# Altium footprint library IPC-SM-782 Section 11.3 SQFP_QFP-Rectangular.PcbLib: 50 footprints (part 4 of 4)
Each footprint in its own frame and in the unit in brackets; x right, y up, seen from the top. Pads: shape width x height; smd on the part's side, far side on the other; paste and mask are expansions set on the pad; w line width, h text height; cw(c..) or ccw(c..) is an arc to the next point about the centre after c.
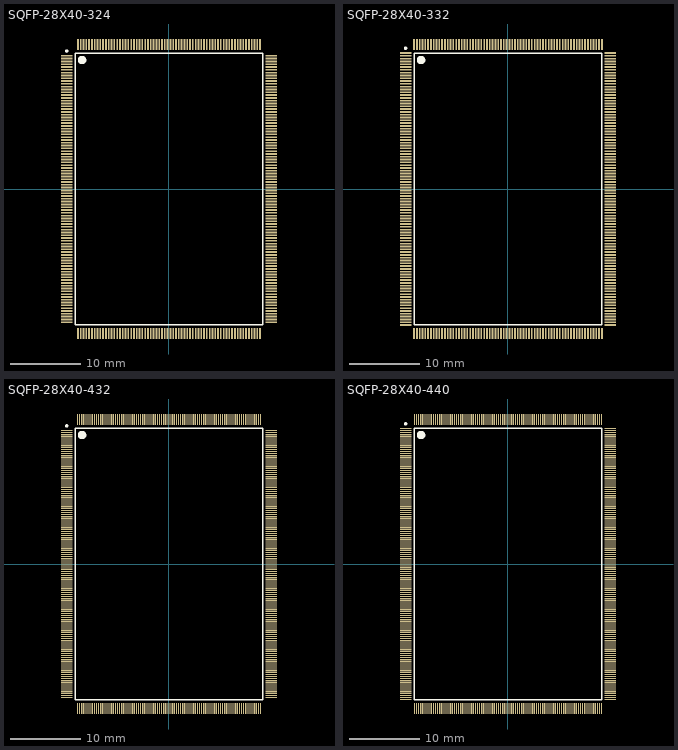
[diagram p3: the footprints below, top view; thin cyan lines are the x and y axes]

## SQFP-28X40-324 [mm] "QFP; 324 Leads; Body 28 x 40 mm; Pitch 0.4 mm"
height 4.2
pads (324):
  rect 1.6x0.25 smd: 1(-14.6,19) 2(-14.6,18.6) 3(-14.6,18.2) 4(-14.6,17.8) 5(-14.6,17.4) 6(-14.6,17) 7(-14.6,16.6) 8(-14.6,16.2) 9(-14.6,15.8) 10(-14.6,15.4) 11(-14.6,15) 12(-14.6,14.6) 13(-14.6,14.2) 14(-14.6,13.8) 15(-14.6,13.4) 16(-14.6,13) 17(-14.6,12.6) 18(-14.6,12.2) 19(-14.6,11.8) 20(-14.6,11.4) 21(-14.6,11) 22(-14.6,10.6) 23(-14.6,10.2) 24(-14.6,9.8) 25(-14.6,9.4) 26(-14.6,9) 27(-14.6,8.6) 28(-14.6,8.2) 29(-14.6,7.8) 30(-14.6,7.4) 31(-14.6,7) 32(-14.6,6.6) 33(-14.6,6.2) 34(-14.6,5.8) 35(-14.6,5.4) 36(-14.6,5) 37(-14.6,4.6) 38(-14.6,4.2) 39(-14.6,3.8) 40(-14.6,3.4) 41(-14.6,3) 42(-14.6,2.6) 43(-14.6,2.2) 44(-14.6,1.8) 45(-14.6,1.4) 46(-14.6,1) 47(-14.6,0.6) 48(-14.6,0.2) 49(-14.6,-0.2) 50(-14.6,-0.6) 51(-14.6,-1) 52(-14.6,-1.4) 53(-14.6,-1.8) 54(-14.6,-2.2) 55(-14.6,-2.6) 56(-14.6,-3) 57(-14.6,-3.4) 58(-14.6,-3.8) 59(-14.6,-4.2) 60(-14.6,-4.6) 61(-14.6,-5) 62(-14.6,-5.4) 63(-14.6,-5.8) 64(-14.6,-6.2) 65(-14.6,-6.6) 66(-14.6,-7) 67(-14.6,-7.4) 68(-14.6,-7.8) 69(-14.6,-8.2) 70(-14.6,-8.6) 71(-14.6,-9) 72(-14.6,-9.4) 73(-14.6,-9.8) 74(-14.6,-10.2) 75(-14.6,-10.6) 76(-14.6,-11) 77(-14.6,-11.4) 78(-14.6,-11.8) 79(-14.6,-12.2) 80(-14.6,-12.6) 81(-14.6,-13) 82(-14.6,-13.4) 83(-14.6,-13.8) 84(-14.6,-14.2) 85(-14.6,-14.6) 86(-14.6,-15) 87(-14.6,-15.4) 88(-14.6,-15.8) 89(-14.6,-16.2) 90(-14.6,-16.6) 91(-14.6,-17) 92(-14.6,-17.4) 93(-14.6,-17.8) 94(-14.6,-18.2) 95(-14.6,-18.6) 96(-14.6,-19) 163(14.6,-19) 164(14.6,-18.6) 165(14.6,-18.2) 166(14.6,-17.8) 167(14.6,-17.4) 168(14.6,-17) 169(14.6,-16.6) 170(14.6,-16.2) 171(14.6,-15.8) 172(14.6,-15.4) 173(14.6,-15) 174(14.6,-14.6) 175(14.6,-14.2) 176(14.6,-13.8) 177(14.6,-13.4) 178(14.6,-13) 179(14.6,-12.6) 180(14.6,-12.2) 181(14.6,-11.8) 182(14.6,-11.4) 183(14.6,-11) 184(14.6,-10.6) 185(14.6,-10.2) 186(14.6,-9.8) 187(14.6,-9.4) 188(14.6,-9) 189(14.6,-8.6) 190(14.6,-8.2) 191(14.6,-7.8) 192(14.6,-7.4) 193(14.6,-7) 194(14.6,-6.6) 195(14.6,-6.2) 196(14.6,-5.8) 197(14.6,-5.4) 198(14.6,-5) 199(14.6,-4.6) 200(14.6,-4.2) 201(14.6,-3.8) 202(14.6,-3.4) 203(14.6,-3) 204(14.6,-2.6) 205(14.6,-2.2) 206(14.6,-1.8) 207(14.6,-1.4) 208(14.6,-1) 209(14.6,-0.6) 210(14.6,-0.2) 211(14.6,0.2) 212(14.6,0.6) 213(14.6,1) 214(14.6,1.4) 215(14.6,1.8) 216(14.6,2.2) 217(14.6,2.6) 218(14.6,3) 219(14.6,3.4) 220(14.6,3.8) 221(14.6,4.2) 222(14.6,4.6) 223(14.6,5) 224(14.6,5.4) 225(14.6,5.8) 226(14.6,6.2) 227(14.6,6.6) 228(14.6,7) 229(14.6,7.4) 230(14.6,7.8) 231(14.6,8.2) 232(14.6,8.6) 233(14.6,9) 234(14.6,9.4) 235(14.6,9.8) 236(14.6,10.2) 237(14.6,10.6) 238(14.6,11) 239(14.6,11.4) 240(14.6,11.8) 241(14.6,12.2) 242(14.6,12.6) 243(14.6,13) 244(14.6,13.4) 245(14.6,13.8) 246(14.6,14.2) 247(14.6,14.6) 248(14.6,15) 249(14.6,15.4) 250(14.6,15.8) 251(14.6,16.2) 252(14.6,16.6) 253(14.6,17) 254(14.6,17.4) 255(14.6,17.8) 256(14.6,18.2) 257(14.6,18.6) 258(14.6,19)
  rect 0.25x1.6 smd: 97(-13,-20.6) 98(-12.6,-20.6) 99(-12.2,-20.6) 100(-11.8,-20.6) 101(-11.4,-20.6) 102(-11,-20.6) 103(-10.6,-20.6) 104(-10.2,-20.6) 105(-9.8,-20.6) 106(-9.4,-20.6) 107(-9,-20.6) 108(-8.6,-20.6) 109(-8.2,-20.6) 110(-7.8,-20.6) 111(-7.4,-20.6) 112(-7,-20.6) 113(-6.6,-20.6) 114(-6.2,-20.6) 115(-5.8,-20.6) 116(-5.4,-20.6) 117(-5,-20.6) 118(-4.6,-20.6) 119(-4.2,-20.6) 120(-3.8,-20.6) 121(-3.4,-20.6) 122(-3,-20.6) 123(-2.6,-20.6) 124(-2.2,-20.6) 125(-1.8,-20.6) 126(-1.4,-20.6) 127(-1,-20.6) 128(-0.6,-20.6) 129(-0.2,-20.6) 130(0.2,-20.6) 131(0.6,-20.6) 132(1,-20.6) 133(1.4,-20.6) 134(1.8,-20.6) 135(2.2,-20.6) 136(2.6,-20.6) 137(3,-20.6) 138(3.4,-20.6) 139(3.8,-20.6) 140(4.2,-20.6) 141(4.6,-20.6) 142(5,-20.6) 143(5.4,-20.6) 144(5.8,-20.6) 145(6.2,-20.6) 146(6.6,-20.6) 147(7,-20.6) 148(7.4,-20.6) 149(7.8,-20.6) 150(8.2,-20.6) 151(8.6,-20.6) 152(9,-20.6) 153(9.4,-20.6) 154(9.8,-20.6) 155(10.2,-20.6) 156(10.6,-20.6) 157(11,-20.6) 158(11.4,-20.6) 159(11.8,-20.6) 160(12.2,-20.6) 161(12.6,-20.6) 162(13,-20.6) 259(13,20.6) 260(12.6,20.6) 261(12.2,20.6) 262(11.8,20.6) 263(11.4,20.6) 264(11,20.6) 265(10.6,20.6) 266(10.2,20.6) 267(9.8,20.6) 268(9.4,20.6) 269(9,20.6) 270(8.6,20.6) 271(8.2,20.6) 272(7.8,20.6) 273(7.4,20.6) 274(7,20.6) 275(6.6,20.6) 276(6.2,20.6) 277(5.8,20.6) 278(5.4,20.6) 279(5,20.6) 280(4.6,20.6) 281(4.2,20.6) 282(3.8,20.6) 283(3.4,20.6) 284(3,20.6) 285(2.6,20.6) 286(2.2,20.6) 287(1.8,20.6) 288(1.4,20.6) 289(1,20.6) 290(0.6,20.6) 291(0.2,20.6) 292(-0.2,20.6) 293(-0.6,20.6) 294(-1,20.6) 295(-1.4,20.6) 296(-1.8,20.6) 297(-2.2,20.6) 298(-2.6,20.6) 299(-3,20.6) 300(-3.4,20.6) 301(-3.8,20.6) 302(-4.2,20.6) 303(-4.6,20.6) 304(-5,20.6) 305(-5.4,20.6) 306(-5.8,20.6) 307(-6.2,20.6) 308(-6.6,20.6) 309(-7,20.6) 310(-7.4,20.6) 311(-7.8,20.6) 312(-8.2,20.6) 313(-8.6,20.6) 314(-9,20.6) 315(-9.4,20.6) 316(-9.8,20.6) 317(-10.2,20.6) 318(-10.6,20.6) 319(-11,20.6) 320(-11.4,20.6) 321(-11.8,20.6) 322(-12.2,20.6) 323(-12.6,20.6) 324(-13,20.6)
Top Overlay:
  circle w0.6: c-12.4,18.4 r0.3
  circle w0.25: c-14.6,19.688 r0.125
  lines w0.2: -13.4,-19.4 -13.4,19.4 13.4,19.4 13.4,-19.4 -13.4,-19.4

## SQFP-28X40-332 [mm] "QFP; 332 Leads; Body 28 x 40 mm; Pitch 0.4 mm"
height 4.2
pads (332):
  rect 1.6x0.25 smd: 1(-14.6,19.4) 2(-14.6,19) 3(-14.6,18.6) 4(-14.6,18.2) 5(-14.6,17.8) 6(-14.6,17.4) 7(-14.6,17) 8(-14.6,16.6) 9(-14.6,16.2) 10(-14.6,15.8) 11(-14.6,15.4) 12(-14.6,15) 13(-14.6,14.6) 14(-14.6,14.2) 15(-14.6,13.8) 16(-14.6,13.4) 17(-14.6,13) 18(-14.6,12.6) 19(-14.6,12.2) 20(-14.6,11.8) 21(-14.6,11.4) 22(-14.6,11) 23(-14.6,10.6) 24(-14.6,10.2) 25(-14.6,9.8) 26(-14.6,9.4) 27(-14.6,9) 28(-14.6,8.6) 29(-14.6,8.2) 30(-14.6,7.8) 31(-14.6,7.4) 32(-14.6,7) 33(-14.6,6.6) 34(-14.6,6.2) 35(-14.6,5.8) 36(-14.6,5.4) 37(-14.6,5) 38(-14.6,4.6) 39(-14.6,4.2) 40(-14.6,3.8) 41(-14.6,3.4) 42(-14.6,3) 43(-14.6,2.6) 44(-14.6,2.2) 45(-14.6,1.8) 46(-14.6,1.4) 47(-14.6,1) 48(-14.6,0.6) 49(-14.6,0.2) 50(-14.6,-0.2) 51(-14.6,-0.6) 52(-14.6,-1) 53(-14.6,-1.4) 54(-14.6,-1.8) 55(-14.6,-2.2) 56(-14.6,-2.6) 57(-14.6,-3) 58(-14.6,-3.4) 59(-14.6,-3.8) 60(-14.6,-4.2) 61(-14.6,-4.6) 62(-14.6,-5) 63(-14.6,-5.4) 64(-14.6,-5.8) 65(-14.6,-6.2) 66(-14.6,-6.6) 67(-14.6,-7) 68(-14.6,-7.4) 69(-14.6,-7.8) 70(-14.6,-8.2) 71(-14.6,-8.6) 72(-14.6,-9) 73(-14.6,-9.4) 74(-14.6,-9.8) 75(-14.6,-10.2) 76(-14.6,-10.6) 77(-14.6,-11) 78(-14.6,-11.4) 79(-14.6,-11.8) 80(-14.6,-12.2) 81(-14.6,-12.6) 82(-14.6,-13) 83(-14.6,-13.4) 84(-14.6,-13.8) 85(-14.6,-14.2) 86(-14.6,-14.6) 87(-14.6,-15) 88(-14.6,-15.4) 89(-14.6,-15.8) 90(-14.6,-16.2) 91(-14.6,-16.6) 92(-14.6,-17) 93(-14.6,-17.4) 94(-14.6,-17.8) 95(-14.6,-18.2) 96(-14.6,-18.6) 97(-14.6,-19) 98(-14.6,-19.4) 167(14.6,-19.4) 168(14.6,-19) 169(14.6,-18.6) 170(14.6,-18.2) 171(14.6,-17.8) 172(14.6,-17.4) 173(14.6,-17) 174(14.6,-16.6) 175(14.6,-16.2) 176(14.6,-15.8) 177(14.6,-15.4) 178(14.6,-15) 179(14.6,-14.6) 180(14.6,-14.2) 181(14.6,-13.8) 182(14.6,-13.4) 183(14.6,-13) 184(14.6,-12.6) 185(14.6,-12.2) 186(14.6,-11.8) 187(14.6,-11.4) 188(14.6,-11) 189(14.6,-10.6) 190(14.6,-10.2) 191(14.6,-9.8) 192(14.6,-9.4) 193(14.6,-9) 194(14.6,-8.6) 195(14.6,-8.2) 196(14.6,-7.8) 197(14.6,-7.4) 198(14.6,-7) 199(14.6,-6.6) 200(14.6,-6.2) 201(14.6,-5.8) 202(14.6,-5.4) 203(14.6,-5) 204(14.6,-4.6) 205(14.6,-4.2) 206(14.6,-3.8) 207(14.6,-3.4) 208(14.6,-3) 209(14.6,-2.6) 210(14.6,-2.2) 211(14.6,-1.8) 212(14.6,-1.4) 213(14.6,-1) 214(14.6,-0.6) 215(14.6,-0.2) 216(14.6,0.2) 217(14.6,0.6) 218(14.6,1) 219(14.6,1.4) 220(14.6,1.8) 221(14.6,2.2) 222(14.6,2.6) 223(14.6,3) 224(14.6,3.4) 225(14.6,3.8) 226(14.6,4.2) 227(14.6,4.6) 228(14.6,5) 229(14.6,5.4) 230(14.6,5.8) 231(14.6,6.2) 232(14.6,6.6) 233(14.6,7) 234(14.6,7.4) 235(14.6,7.8) 236(14.6,8.2) 237(14.6,8.6) 238(14.6,9) 239(14.6,9.4) 240(14.6,9.8) 241(14.6,10.2) 242(14.6,10.6) 243(14.6,11) 244(14.6,11.4) 245(14.6,11.8) 246(14.6,12.2) 247(14.6,12.6) 248(14.6,13) 249(14.6,13.4) 250(14.6,13.8) 251(14.6,14.2) 252(14.6,14.6) 253(14.6,15) 254(14.6,15.4) 255(14.6,15.8) 256(14.6,16.2) 257(14.6,16.6) 258(14.6,17) 259(14.6,17.4) 260(14.6,17.8) 261(14.6,18.2) 262(14.6,18.6) 263(14.6,19) 264(14.6,19.4)
  rect 0.25x1.6 smd: 99(-13.4,-20.6) 100(-13,-20.6) 101(-12.6,-20.6) 102(-12.2,-20.6) 103(-11.8,-20.6) 104(-11.4,-20.6) 105(-11,-20.6) 106(-10.6,-20.6) 107(-10.2,-20.6) 108(-9.8,-20.6) 109(-9.4,-20.6) 110(-9,-20.6) 111(-8.6,-20.6) 112(-8.2,-20.6) 113(-7.8,-20.6) 114(-7.4,-20.6) 115(-7,-20.6) 116(-6.6,-20.6) 117(-6.2,-20.6) 118(-5.8,-20.6) 119(-5.4,-20.6) 120(-5,-20.6) 121(-4.6,-20.6) 122(-4.2,-20.6) 123(-3.8,-20.6) 124(-3.4,-20.6) 125(-3,-20.6) 126(-2.6,-20.6) 127(-2.2,-20.6) 128(-1.8,-20.6) 129(-1.4,-20.6) 130(-1,-20.6) 131(-0.6,-20.6) 132(-0.2,-20.6) 133(0.2,-20.6) 134(0.6,-20.6) 135(1,-20.6) 136(1.4,-20.6) 137(1.8,-20.6) 138(2.2,-20.6) 139(2.6,-20.6) 140(3,-20.6) 141(3.4,-20.6) 142(3.8,-20.6) 143(4.2,-20.6) 144(4.6,-20.6) 145(5,-20.6) 146(5.4,-20.6) 147(5.8,-20.6) 148(6.2,-20.6) 149(6.6,-20.6) 150(7,-20.6) 151(7.4,-20.6) 152(7.8,-20.6) 153(8.2,-20.6) 154(8.6,-20.6) 155(9,-20.6) 156(9.4,-20.6) 157(9.8,-20.6) 158(10.2,-20.6) 159(10.6,-20.6) 160(11,-20.6) 161(11.4,-20.6) 162(11.8,-20.6) 163(12.2,-20.6) 164(12.6,-20.6) 165(13,-20.6) 166(13.4,-20.6) 265(13.4,20.6) 266(13,20.6) 267(12.6,20.6) 268(12.2,20.6) 269(11.8,20.6) 270(11.4,20.6) 271(11,20.6) 272(10.6,20.6) 273(10.2,20.6) 274(9.8,20.6) 275(9.4,20.6) 276(9,20.6) 277(8.6,20.6) 278(8.2,20.6) 279(7.8,20.6) 280(7.4,20.6) 281(7,20.6) 282(6.6,20.6) 283(6.2,20.6) 284(5.8,20.6) 285(5.4,20.6) 286(5,20.6) 287(4.6,20.6) 288(4.2,20.6) 289(3.8,20.6) 290(3.4,20.6) 291(3,20.6) 292(2.6,20.6) 293(2.2,20.6) 294(1.8,20.6) 295(1.4,20.6) 296(1,20.6) 297(0.6,20.6) 298(0.2,20.6) 299(-0.2,20.6) 300(-0.6,20.6) 301(-1,20.6) 302(-1.4,20.6) 303(-1.8,20.6) 304(-2.2,20.6) 305(-2.6,20.6) 306(-3,20.6) 307(-3.4,20.6) 308(-3.8,20.6) 309(-4.2,20.6) 310(-4.6,20.6) 311(-5,20.6) 312(-5.4,20.6) 313(-5.8,20.6) 314(-6.2,20.6) 315(-6.6,20.6) 316(-7,20.6) 317(-7.4,20.6) 318(-7.8,20.6) 319(-8.2,20.6) 320(-8.6,20.6) 321(-9,20.6) 322(-9.4,20.6) 323(-9.8,20.6) 324(-10.2,20.6) 325(-10.6,20.6) 326(-11,20.6) 327(-11.4,20.6) 328(-11.8,20.6) 329(-12.2,20.6) 330(-12.6,20.6) 331(-13,20.6) 332(-13.4,20.6)
Top Overlay:
  circle w0.25: c-14.6,20.088 r0.125
  circle w0.6: c-12.4,18.4 r0.3
  lines w0.2: -13.4,-19.4 13.4,-19.4 13.4,19.4 -13.4,19.4 -13.4,-19.4

## SQFP-28X40-432 [mm] "QFP; 432 Leads; Body 28 x 40 mm; Pitch 0.3 mm"
height 4.2
pads (432):
  rect 1.6x0.17 smd: 1(-14.6,19.05) 2(-14.6,18.75) 3(-14.6,18.45) 4(-14.6,18.15) 5(-14.6,17.85) 6(-14.6,17.55) 7(-14.6,17.25) 8(-14.6,16.95) 9(-14.6,16.65) 10(-14.6,16.35) 11(-14.6,16.05) 12(-14.6,15.75) 13(-14.6,15.45) 14(-14.6,15.15) 15(-14.6,14.85) 16(-14.6,14.55) 17(-14.6,14.25) 18(-14.6,13.95) 19(-14.6,13.65) 20(-14.6,13.35) 21(-14.6,13.05) 22(-14.6,12.75) 23(-14.6,12.45) 24(-14.6,12.15) 25(-14.6,11.85) 26(-14.6,11.55) 27(-14.6,11.25) 28(-14.6,10.95) 29(-14.6,10.65) 30(-14.6,10.35) 31(-14.6,10.05) 32(-14.6,9.75) 33(-14.6,9.45) 34(-14.6,9.15) 35(-14.6,8.85) 36(-14.6,8.55) 37(-14.6,8.25) 38(-14.6,7.95) 39(-14.6,7.65) 40(-14.6,7.35) 41(-14.6,7.05) 42(-14.6,6.75) 43(-14.6,6.45) 44(-14.6,6.15) 45(-14.6,5.85) 46(-14.6,5.55) 47(-14.6,5.25) 48(-14.6,4.95) 49(-14.6,4.65) 50(-14.6,4.35) 51(-14.6,4.05) 52(-14.6,3.75) 53(-14.6,3.45) 54(-14.6,3.15) 55(-14.6,2.85) 56(-14.6,2.55) 57(-14.6,2.25) 58(-14.6,1.95) 59(-14.6,1.65) 60(-14.6,1.35) 61(-14.6,1.05) 62(-14.6,0.75) 63(-14.6,0.45) 64(-14.6,0.15) 65(-14.6,-0.15) 66(-14.6,-0.45) 67(-14.6,-0.75) 68(-14.6,-1.05) 69(-14.6,-1.35) 70(-14.6,-1.65) 71(-14.6,-1.95) 72(-14.6,-2.25) 73(-14.6,-2.55) 74(-14.6,-2.85) 75(-14.6,-3.15) 76(-14.6,-3.45) 77(-14.6,-3.75) 78(-14.6,-4.05) 79(-14.6,-4.35) 80(-14.6,-4.65) 81(-14.6,-4.95) 82(-14.6,-5.25) 83(-14.6,-5.55) 84(-14.6,-5.85) 85(-14.6,-6.15) 86(-14.6,-6.45) 87(-14.6,-6.75) 88(-14.6,-7.05) 89(-14.6,-7.35) 90(-14.6,-7.65) 91(-14.6,-7.95) 92(-14.6,-8.25) 93(-14.6,-8.55) 94(-14.6,-8.85) 95(-14.6,-9.15) 96(-14.6,-9.45) 97(-14.6,-9.75) 98(-14.6,-10.05) 99(-14.6,-10.35) 100(-14.6,-10.65) 101(-14.6,-10.95) 102(-14.6,-11.25) 103(-14.6,-11.55) 104(-14.6,-11.85) 105(-14.6,-12.15) 106(-14.6,-12.45) 107(-14.6,-12.75) 108(-14.6,-13.05) 109(-14.6,-13.35) 110(-14.6,-13.65) 111(-14.6,-13.95) 112(-14.6,-14.25) 113(-14.6,-14.55) 114(-14.6,-14.85) 115(-14.6,-15.15) 116(-14.6,-15.45) 117(-14.6,-15.75) 118(-14.6,-16.05) 119(-14.6,-16.35) 120(-14.6,-16.65) 121(-14.6,-16.95) 122(-14.6,-17.25) 123(-14.6,-17.55) 124(-14.6,-17.85) 125(-14.6,-18.15) 126(-14.6,-18.45) 127(-14.6,-18.75) 128(-14.6,-19.05) 217(14.6,-19.05) 218(14.6,-18.75) 219(14.6,-18.45) 220(14.6,-18.15) 221(14.6,-17.85) 222(14.6,-17.55) 223(14.6,-17.25) 224(14.6,-16.95) 225(14.6,-16.65) 226(14.6,-16.35) 227(14.6,-16.05) 228(14.6,-15.75) 229(14.6,-15.45) 230(14.6,-15.15) 231(14.6,-14.85) 232(14.6,-14.55) 233(14.6,-14.25) 234(14.6,-13.95) 235(14.6,-13.65) 236(14.6,-13.35) 237(14.6,-13.05) 238(14.6,-12.75) 239(14.6,-12.45) 240(14.6,-12.15) 241(14.6,-11.85) 242(14.6,-11.55) 243(14.6,-11.25) 244(14.6,-10.95) 245(14.6,-10.65) 246(14.6,-10.35) 247(14.6,-10.05) 248(14.6,-9.75) 249(14.6,-9.45) 250(14.6,-9.15) 251(14.6,-8.85) 252(14.6,-8.55) 253(14.6,-8.25) 254(14.6,-7.95) 255(14.6,-7.65) 256(14.6,-7.35) 257(14.6,-7.05) 258(14.6,-6.75) 259(14.6,-6.45) 260(14.6,-6.15) 261(14.6,-5.85) 262(14.6,-5.55) 263(14.6,-5.25) 264(14.6,-4.95) 265(14.6,-4.65) 266(14.6,-4.35) 267(14.6,-4.05) 268(14.6,-3.75) 269(14.6,-3.45) 270(14.6,-3.15) 271(14.6,-2.85) 272(14.6,-2.55) 273(14.6,-2.25) 274(14.6,-1.95) 275(14.6,-1.65) 276(14.6,-1.35) 277(14.6,-1.05) 278(14.6,-0.75) 279(14.6,-0.45) 280(14.6,-0.15) 281(14.6,0.15) 282(14.6,0.45) 283(14.6,0.75) 284(14.6,1.05) 285(14.6,1.35) 286(14.6,1.65) 287(14.6,1.95) 288(14.6,2.25) 289(14.6,2.55) 290(14.6,2.85) 291(14.6,3.15) 292(14.6,3.45) 293(14.6,3.75) 294(14.6,4.05) 295(14.6,4.35) 296(14.6,4.65) 297(14.6,4.95) 298(14.6,5.25) 299(14.6,5.55) 300(14.6,5.85) 301(14.6,6.15) 302(14.6,6.45) 303(14.6,6.75) 304(14.6,7.05) 305(14.6,7.35) 306(14.6,7.65) 307(14.6,7.95) 308(14.6,8.25) 309(14.6,8.55) 310(14.6,8.85) 311(14.6,9.15) 312(14.6,9.45) 313(14.6,9.75) 314(14.6,10.05) 315(14.6,10.35) 316(14.6,10.65) 317(14.6,10.95) 318(14.6,11.25) 319(14.6,11.55) 320(14.6,11.85) 321(14.6,12.15) 322(14.6,12.45) 323(14.6,12.75) 324(14.6,13.05) 325(14.6,13.35) 326(14.6,13.65) 327(14.6,13.95) 328(14.6,14.25) 329(14.6,14.55) 330(14.6,14.85) 331(14.6,15.15) 332(14.6,15.45) 333(14.6,15.75) 334(14.6,16.05) 335(14.6,16.35) 336(14.6,16.65) 337(14.6,16.95) 338(14.6,17.25) 339(14.6,17.55) 340(14.6,17.85) 341(14.6,18.15) 342(14.6,18.45) 343(14.6,18.75) 344(14.6,19.05)
  rect 0.17x1.6 smd: 129(-13.05,-20.6) 130(-12.75,-20.6) 131(-12.45,-20.6) 132(-12.15,-20.6) 133(-11.85,-20.6) 134(-11.55,-20.6) 135(-11.25,-20.6) 136(-10.95,-20.6) 137(-10.65,-20.6) 138(-10.35,-20.6) 139(-10.05,-20.6) 140(-9.75,-20.6) 141(-9.45,-20.6) 142(-9.15,-20.6) 143(-8.85,-20.6) 144(-8.55,-20.6) 145(-8.25,-20.6) 146(-7.95,-20.6) 147(-7.65,-20.6) 148(-7.35,-20.6) 149(-7.05,-20.6) 150(-6.75,-20.6) 151(-6.45,-20.6) 152(-6.15,-20.6) 153(-5.85,-20.6) 154(-5.55,-20.6) 155(-5.25,-20.6) 156(-4.95,-20.6) 157(-4.65,-20.6) 158(-4.35,-20.6) 159(-4.05,-20.6) 160(-3.75,-20.6) 161(-3.45,-20.6) 162(-3.15,-20.6) 163(-2.85,-20.6) 164(-2.55,-20.6) 165(-2.25,-20.6) 166(-1.95,-20.6) 167(-1.65,-20.6) 168(-1.35,-20.6) 169(-1.05,-20.6) 170(-0.75,-20.6) 171(-0.45,-20.6) 172(-0.15,-20.6) 173(0.15,-20.6) 174(0.45,-20.6) 175(0.75,-20.6) 176(1.05,-20.6) 177(1.35,-20.6) 178(1.65,-20.6) 179(1.95,-20.6) 180(2.25,-20.6) 181(2.55,-20.6) 182(2.85,-20.6) 183(3.15,-20.6) 184(3.45,-20.6) 185(3.75,-20.6) 186(4.05,-20.6) 187(4.35,-20.6) 188(4.65,-20.6) 189(4.95,-20.6) 190(5.25,-20.6) 191(5.55,-20.6) 192(5.85,-20.6) 193(6.15,-20.6) 194(6.45,-20.6) 195(6.75,-20.6) 196(7.05,-20.6) 197(7.35,-20.6) 198(7.65,-20.6) 199(7.95,-20.6) 200(8.25,-20.6) 201(8.55,-20.6) 202(8.85,-20.6) 203(9.15,-20.6) 204(9.45,-20.6) 205(9.75,-20.6) 206(10.05,-20.6) 207(10.35,-20.6) 208(10.65,-20.6) 209(10.95,-20.6) 210(11.25,-20.6) 211(11.55,-20.6) 212(11.85,-20.6) 213(12.15,-20.6) 214(12.45,-20.6) 215(12.75,-20.6) 216(13.05,-20.6) 345(13.05,20.6) 346(12.75,20.6) 347(12.45,20.6) 348(12.15,20.6) 349(11.85,20.6) 350(11.55,20.6) 351(11.25,20.6) 352(10.95,20.6) 353(10.65,20.6) 354(10.35,20.6) 355(10.05,20.6) 356(9.75,20.6) 357(9.45,20.6) 358(9.15,20.6) 359(8.85,20.6) 360(8.55,20.6) 361(8.25,20.6) 362(7.95,20.6) 363(7.65,20.6) 364(7.35,20.6) 365(7.05,20.6) 366(6.75,20.6) 367(6.45,20.6) 368(6.15,20.6) 369(5.85,20.6) 370(5.55,20.6) 371(5.25,20.6) 372(4.95,20.6) 373(4.65,20.6) 374(4.35,20.6) 375(4.05,20.6) 376(3.75,20.6) 377(3.45,20.6) 378(3.15,20.6) 379(2.85,20.6) 380(2.55,20.6) 381(2.25,20.6) 382(1.95,20.6) 383(1.65,20.6) 384(1.35,20.6) 385(1.05,20.6) 386(0.75,20.6) 387(0.45,20.6) 388(0.15,20.6) 389(-0.15,20.6) 390(-0.45,20.6) 391(-0.75,20.6) 392(-1.05,20.6) 393(-1.35,20.6) 394(-1.65,20.6) 395(-1.95,20.6) 396(-2.25,20.6) 397(-2.55,20.6) 398(-2.85,20.6) 399(-3.15,20.6) 400(-3.45,20.6) 401(-3.75,20.6) 402(-4.05,20.6) 403(-4.35,20.6) 404(-4.65,20.6) 405(-4.95,20.6) 406(-5.25,20.6) 407(-5.55,20.6) 408(-5.85,20.6) 409(-6.15,20.6) 410(-6.45,20.6) 411(-6.75,20.6) 412(-7.05,20.6) 413(-7.35,20.6) 414(-7.65,20.6) 415(-7.95,20.6) 416(-8.25,20.6) 417(-8.55,20.6) 418(-8.85,20.6) 419(-9.15,20.6) 420(-9.45,20.6) 421(-9.75,20.6) 422(-10.05,20.6) 423(-10.35,20.6) 424(-10.65,20.6) 425(-10.95,20.6) 426(-11.25,20.6) 427(-11.55,20.6) 428(-11.85,20.6) 429(-12.15,20.6) 430(-12.45,20.6) 431(-12.75,20.6) 432(-13.05,20.6)
Top Overlay:
  circle w0.25: c-14.6,19.697 r0.125
  circle w0.6: c-12.4,18.4 r0.3
  lines w0.2: -13.4,-19.4 13.4,-19.4 13.4,19.4 -13.4,19.4 -13.4,-19.4

## SQFP-28X40-440 [mm] "QFP; 440 Leads; Body 28 x 40 mm; Pitch 0.3 mm"
height 4.2
pads (440):
  rect 1.6x0.17 smd: 1(-14.6,19.35) 2(-14.6,19.05) 3(-14.6,18.75) 4(-14.6,18.45) 5(-14.6,18.15) 6(-14.6,17.85) 7(-14.6,17.55) 8(-14.6,17.25) 9(-14.6,16.95) 10(-14.6,16.65) 11(-14.6,16.35) 12(-14.6,16.05) 13(-14.6,15.75) 14(-14.6,15.45) 15(-14.6,15.15) 16(-14.6,14.85) 17(-14.6,14.55) 18(-14.6,14.25) 19(-14.6,13.95) 20(-14.6,13.65) 21(-14.6,13.35) 22(-14.6,13.05) 23(-14.6,12.75) 24(-14.6,12.45) 25(-14.6,12.15) 26(-14.6,11.85) 27(-14.6,11.55) 28(-14.6,11.25) 29(-14.6,10.95) 30(-14.6,10.65) 31(-14.6,10.35) 32(-14.6,10.05) 33(-14.6,9.75) 34(-14.6,9.45) 35(-14.6,9.15) 36(-14.6,8.85) 37(-14.6,8.55) 38(-14.6,8.25) 39(-14.6,7.95) 40(-14.6,7.65) 41(-14.6,7.35) 42(-14.6,7.05) 43(-14.6,6.75) 44(-14.6,6.45) 45(-14.6,6.15) 46(-14.6,5.85) 47(-14.6,5.55) 48(-14.6,5.25) 49(-14.6,4.95) 50(-14.6,4.65) 51(-14.6,4.35) 52(-14.6,4.05) 53(-14.6,3.75) 54(-14.6,3.45) 55(-14.6,3.15) 56(-14.6,2.85) 57(-14.6,2.55) 58(-14.6,2.25) 59(-14.6,1.95) 60(-14.6,1.65) 61(-14.6,1.35) 62(-14.6,1.05) 63(-14.6,0.75) 64(-14.6,0.45) 65(-14.6,0.15) 66(-14.6,-0.15) 67(-14.6,-0.45) 68(-14.6,-0.75) 69(-14.6,-1.05) 70(-14.6,-1.35) 71(-14.6,-1.65) 72(-14.6,-1.95) 73(-14.6,-2.25) 74(-14.6,-2.55) 75(-14.6,-2.85) 76(-14.6,-3.15) 77(-14.6,-3.45) 78(-14.6,-3.75) 79(-14.6,-4.05) 80(-14.6,-4.35) 81(-14.6,-4.65) 82(-14.6,-4.95) 83(-14.6,-5.25) 84(-14.6,-5.55) 85(-14.6,-5.85) 86(-14.6,-6.15) 87(-14.6,-6.45) 88(-14.6,-6.75) 89(-14.6,-7.05) 90(-14.6,-7.35) 91(-14.6,-7.65) 92(-14.6,-7.95) 93(-14.6,-8.25) 94(-14.6,-8.55) 95(-14.6,-8.85) 96(-14.6,-9.15) 97(-14.6,-9.45) 98(-14.6,-9.75) 99(-14.6,-10.05) 100(-14.6,-10.35) 101(-14.6,-10.65) 102(-14.6,-10.95) 103(-14.6,-11.25) 104(-14.6,-11.55) 105(-14.6,-11.85) 106(-14.6,-12.15) 107(-14.6,-12.45) 108(-14.6,-12.75) 109(-14.6,-13.05) 110(-14.6,-13.35) 111(-14.6,-13.65) 112(-14.6,-13.95) 113(-14.6,-14.25) 114(-14.6,-14.55) 115(-14.6,-14.85) 116(-14.6,-15.15) 117(-14.6,-15.45) 118(-14.6,-15.75) 119(-14.6,-16.05) 120(-14.6,-16.35) 121(-14.6,-16.65) 122(-14.6,-16.95) 123(-14.6,-17.25) 124(-14.6,-17.55) 125(-14.6,-17.85) 126(-14.6,-18.15) 127(-14.6,-18.45) 128(-14.6,-18.75) 129(-14.6,-19.05) 130(-14.6,-19.35) 221(14.6,-19.35) 222(14.6,-19.05) 223(14.6,-18.75) 224(14.6,-18.45) 225(14.6,-18.15) 226(14.6,-17.85) 227(14.6,-17.55) 228(14.6,-17.25) 229(14.6,-16.95) 230(14.6,-16.65) 231(14.6,-16.35) 232(14.6,-16.05) 233(14.6,-15.75) 234(14.6,-15.45) 235(14.6,-15.15) 236(14.6,-14.85) 237(14.6,-14.55) 238(14.6,-14.25) 239(14.6,-13.95) 240(14.6,-13.65) 241(14.6,-13.35) 242(14.6,-13.05) 243(14.6,-12.75) 244(14.6,-12.45) 245(14.6,-12.15) 246(14.6,-11.85) 247(14.6,-11.55) 248(14.6,-11.25) 249(14.6,-10.95) 250(14.6,-10.65) 251(14.6,-10.35) 252(14.6,-10.05) 253(14.6,-9.75) 254(14.6,-9.45) 255(14.6,-9.15) 256(14.6,-8.85) 257(14.6,-8.55) 258(14.6,-8.25) 259(14.6,-7.95) 260(14.6,-7.65) 261(14.6,-7.35) 262(14.6,-7.05) 263(14.6,-6.75) 264(14.6,-6.45) 265(14.6,-6.15) 266(14.6,-5.85) 267(14.6,-5.55) 268(14.6,-5.25) 269(14.6,-4.95) 270(14.6,-4.65) 271(14.6,-4.35) 272(14.6,-4.05) 273(14.6,-3.75) 274(14.6,-3.45) 275(14.6,-3.15) 276(14.6,-2.85) 277(14.6,-2.55) 278(14.6,-2.25) 279(14.6,-1.95) 280(14.6,-1.65) 281(14.6,-1.35) 282(14.6,-1.05) 283(14.6,-0.75) 284(14.6,-0.45) 285(14.6,-0.15) 286(14.6,0.15) 287(14.6,0.45) 288(14.6,0.75) 289(14.6,1.05) 290(14.6,1.35) 291(14.6,1.65) 292(14.6,1.95) 293(14.6,2.25) 294(14.6,2.55) 295(14.6,2.85) 296(14.6,3.15) 297(14.6,3.45) 298(14.6,3.75) 299(14.6,4.05) 300(14.6,4.35) 301(14.6,4.65) 302(14.6,4.95) 303(14.6,5.25) 304(14.6,5.55) 305(14.6,5.85) 306(14.6,6.15) 307(14.6,6.45) 308(14.6,6.75) 309(14.6,7.05) 310(14.6,7.35) 311(14.6,7.65) 312(14.6,7.95) 313(14.6,8.25) 314(14.6,8.55) 315(14.6,8.85) 316(14.6,9.15) 317(14.6,9.45) 318(14.6,9.75) 319(14.6,10.05) 320(14.6,10.35) 321(14.6,10.65) 322(14.6,10.95) 323(14.6,11.25) 324(14.6,11.55) 325(14.6,11.85) 326(14.6,12.15) 327(14.6,12.45) 328(14.6,12.75) 329(14.6,13.05) 330(14.6,13.35) 331(14.6,13.65) 332(14.6,13.95) 333(14.6,14.25) 334(14.6,14.55) 335(14.6,14.85) 336(14.6,15.15) 337(14.6,15.45) 338(14.6,15.75) 339(14.6,16.05) 340(14.6,16.35) 341(14.6,16.65) 342(14.6,16.95) 343(14.6,17.25) 344(14.6,17.55) 345(14.6,17.85) 346(14.6,18.15) 347(14.6,18.45) 348(14.6,18.75) 349(14.6,19.05) 350(14.6,19.35)
  rect 0.17x1.6 smd: 131(-13.35,-20.6) 132(-13.05,-20.6) 133(-12.75,-20.6) 134(-12.45,-20.6) 135(-12.15,-20.6) 136(-11.85,-20.6) 137(-11.55,-20.6) 138(-11.25,-20.6) 139(-10.95,-20.6) 140(-10.65,-20.6) 141(-10.35,-20.6) 142(-10.05,-20.6) 143(-9.75,-20.6) 144(-9.45,-20.6) 145(-9.15,-20.6) 146(-8.85,-20.6) 147(-8.55,-20.6) 148(-8.25,-20.6) 149(-7.95,-20.6) 150(-7.65,-20.6) 151(-7.35,-20.6) 152(-7.05,-20.6) 153(-6.75,-20.6) 154(-6.45,-20.6) 155(-6.15,-20.6) 156(-5.85,-20.6) 157(-5.55,-20.6) 158(-5.25,-20.6) 159(-4.95,-20.6) 160(-4.65,-20.6) 161(-4.35,-20.6) 162(-4.05,-20.6) 163(-3.75,-20.6) 164(-3.45,-20.6) 165(-3.15,-20.6) 166(-2.85,-20.6) 167(-2.55,-20.6) 168(-2.25,-20.6) 169(-1.95,-20.6) 170(-1.65,-20.6) 171(-1.35,-20.6) 172(-1.05,-20.6) 173(-0.75,-20.6) 174(-0.45,-20.6) 175(-0.15,-20.6) 176(0.15,-20.6) 177(0.45,-20.6) 178(0.75,-20.6) 179(1.05,-20.6) 180(1.35,-20.6) 181(1.65,-20.6) 182(1.95,-20.6) 183(2.25,-20.6) 184(2.55,-20.6) 185(2.85,-20.6) 186(3.15,-20.6) 187(3.45,-20.6) 188(3.75,-20.6) 189(4.05,-20.6) 190(4.35,-20.6) 191(4.65,-20.6) 192(4.95,-20.6) 193(5.25,-20.6) 194(5.55,-20.6) 195(5.85,-20.6) 196(6.15,-20.6) 197(6.45,-20.6) 198(6.75,-20.6) 199(7.05,-20.6) 200(7.35,-20.6) 201(7.65,-20.6) 202(7.95,-20.6) 203(8.25,-20.6) 204(8.55,-20.6) 205(8.85,-20.6) 206(9.15,-20.6) 207(9.45,-20.6) 208(9.75,-20.6) 209(10.05,-20.6) 210(10.35,-20.6) 211(10.65,-20.6) 212(10.95,-20.6) 213(11.25,-20.6) 214(11.55,-20.6) 215(11.85,-20.6) 216(12.15,-20.6) 217(12.45,-20.6) 218(12.75,-20.6) 219(13.05,-20.6) 220(13.35,-20.6) 351(13.35,20.6) 352(13.05,20.6) 353(12.75,20.6) 354(12.45,20.6) 355(12.15,20.6) 356(11.85,20.6) 357(11.55,20.6) 358(11.25,20.6) 359(10.95,20.6) 360(10.65,20.6) 361(10.35,20.6) 362(10.05,20.6) 363(9.75,20.6) 364(9.45,20.6) 365(9.15,20.6) 366(8.85,20.6) 367(8.55,20.6) 368(8.25,20.6) 369(7.95,20.6) 370(7.65,20.6) 371(7.35,20.6) 372(7.05,20.6) 373(6.75,20.6) 374(6.45,20.6) 375(6.15,20.6) 376(5.85,20.6) 377(5.55,20.6) 378(5.25,20.6) 379(4.95,20.6) 380(4.65,20.6) 381(4.35,20.6) 382(4.05,20.6) 383(3.75,20.6) 384(3.45,20.6) 385(3.15,20.6) 386(2.85,20.6) 387(2.55,20.6) 388(2.25,20.6) 389(1.95,20.6) 390(1.65,20.6) 391(1.35,20.6) 392(1.05,20.6) 393(0.75,20.6) 394(0.45,20.6) 395(0.15,20.6) 396(-0.15,20.6) 397(-0.45,20.6) 398(-0.75,20.6) 399(-1.05,20.6) 400(-1.35,20.6) 401(-1.65,20.6) 402(-1.95,20.6) 403(-2.25,20.6) 404(-2.55,20.6) 405(-2.85,20.6) 406(-3.15,20.6) 407(-3.45,20.6) 408(-3.75,20.6) 409(-4.05,20.6) 410(-4.35,20.6) 411(-4.65,20.6) 412(-4.95,20.6) 413(-5.25,20.6) 414(-5.55,20.6) 415(-5.85,20.6) 416(-6.15,20.6) 417(-6.45,20.6) 418(-6.75,20.6) 419(-7.05,20.6) 420(-7.35,20.6) 421(-7.65,20.6) 422(-7.95,20.6) 423(-8.25,20.6) 424(-8.55,20.6) 425(-8.85,20.6) 426(-9.15,20.6) 427(-9.45,20.6) 428(-9.75,20.6) 429(-10.05,20.6) 430(-10.35,20.6) 431(-10.65,20.6) 432(-10.95,20.6) 433(-11.25,20.6) 434(-11.55,20.6) 435(-11.85,20.6) 436(-12.15,20.6) 437(-12.45,20.6) 438(-12.75,20.6) 439(-13.05,20.6) 440(-13.35,20.6)
Top Overlay:
  circle w0.25: c-14.6,19.997 r0.125
  circle w0.6: c-12.4,18.4 r0.3
  lines w0.2: -13.4,-19.4 13.4,-19.4 13.4,19.4 -13.4,19.4 -13.4,-19.4